# Altium footprint library CHIP_PKG.PcbLib: 20 footprints (part 2 of 2)
Each footprint in its own frame and in the unit in brackets; x right, y up, seen from the top. Pads: shape width x height; smd on the part's side, far side on the other; paste and mask are expansions set on the pad; w line width, h text height; cw(c..) or ccw(c..) is an arc to the next point about the centre after c.
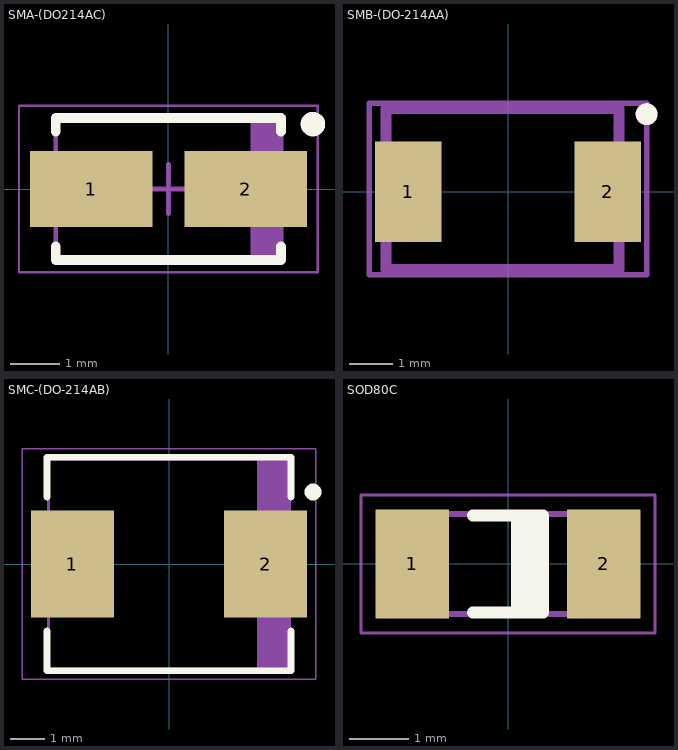
[diagram p1: the footprints below, top view; thin cyan lines are the x and y axes]

## SMA-(DO214AC) [mm]
height 2.44
pads (2):
  rect 2.5x1.55 smd: 1(-1.575,0) 2(1.575,0)
Top Overlay:
  circle w0.25: c2.95,1.325 r0.125
  lines w0.2: -2.3,-1.175 -2.3,-1.45 2.3,-1.45 2.3,-1.175 ; -2.3,1.175 -2.3,1.45 2.3,1.45 2.3,1.175
Top Assembly:
  rectangle: 1.681,-1.45 2.3,1.45
  lines w0.1: -2.3,-1.45 2.3,-1.45 2.3,1.45 -2.3,1.45 -2.3,-1.45
Top Courtyard:
  lines w0.05: -3.05,-1.7 3.05,-1.7 3.05,1.7 -3.05,1.7 -3.05,-1.7
  lines w0.1: -0.5,0 0.5,0 ; 0,-0.5 0,0.5
3D body "SMA-(DO214AC).step": height 2.44, standoff 0, extent -2.52,-1.45 2.52,1.45

## SMB-(DO-214AA) [mm]
pads (2):
  rect 1.52x2.3 smd: 1(-2.286,0) 2(2.286,0)
Top Overlay:
  circle w0.25: c3.175,1.778 r0.125
Top Assembly:
  lines w0.127: -3.175,-1.905 3.175,-1.905 3.175,2.032 -3.175,2.032 -3.175,-1.905
Top Courtyard:
  lines w0.254: -2.794,-1.778 -2.794,1.905 2.54,1.905 2.54,-1.778 -2.794,-1.778
3D body "User Library-DO-214AA SMB.step": height 2.3, standoff 0, extent -2.7,-1.8 2.7,1.8

## SMC-(DO-214AB) [mm]
height 2.62
pads (2):
  rect 2.45x3.15 smd: 1(-2.85,0) 2(2.85,0)
Top Overlay:
  circle w0.25: c4.25,2.125 r0.125
  lines w0.2: -3.6,-1.975 -3.6,-3.15 3.6,-3.15 3.6,-1.975 ; -3.6,1.975 -3.6,3.15 3.6,3.15 3.6,1.975
Top Assembly:
  lines w0.05: -4.325,-3.4 4.325,-3.4 4.325,3.4 -4.325,3.4 -4.325,-3.4
Top Courtyard:
  rectangle: 2.599,-3.11 3.555,3.11
  lines w0.1: -3.555,-3.11 -3.555,3.11 3.555,3.11 3.555,-3.11 -3.555,-3.11
3D body "SMC-DIODE.step": height 2.62, standoff 0, extent -3.775,-3.11 3.775,3.11

## SOD80C [mm] "MELF Diode, 2-Leads, Body 3,50x1,65mm, IPC Medium Density"
height 1.7
pads (2):
  rect 1.25x1.85 smd: 1(-1.625,0) 2(1.625,0)
Top Overlay:
  rectangle: 0.05,-0.825 0.6,0.825
  lines w0.2: -0.6,-0.825 0.6,-0.825 0.6,0.825 -0.6,0.825
Top Assembly:
  lines w0.05: -2.5,-1.175 2.5,-1.175 2.5,1.175 -2.5,1.175 -2.5,-1.175
Top Courtyard:
  lines w0.1: -1.85,-0.85 -1.85,0.85 1.85,0.85 1.85,-0.85 -1.85,-0.85
3D body "User Library-MiniMelf-2.STEP": height 1.6, standoff 0, extent -1.88,-0.8 1.82,0.8